# Altium footprint library RT_SUPER_C__HOST.PcbLib: 23 footprints (part 1 of 2)
Each footprint in its own frame and in the unit in brackets; x right, y up, seen from the top. Pads: shape width x height; smd on the part's side, far side on the other; paste and mask are expansions set on the pad; w line width, h text height; cw(c..) or ccw(c..) is an arc to the next point about the centre after c.
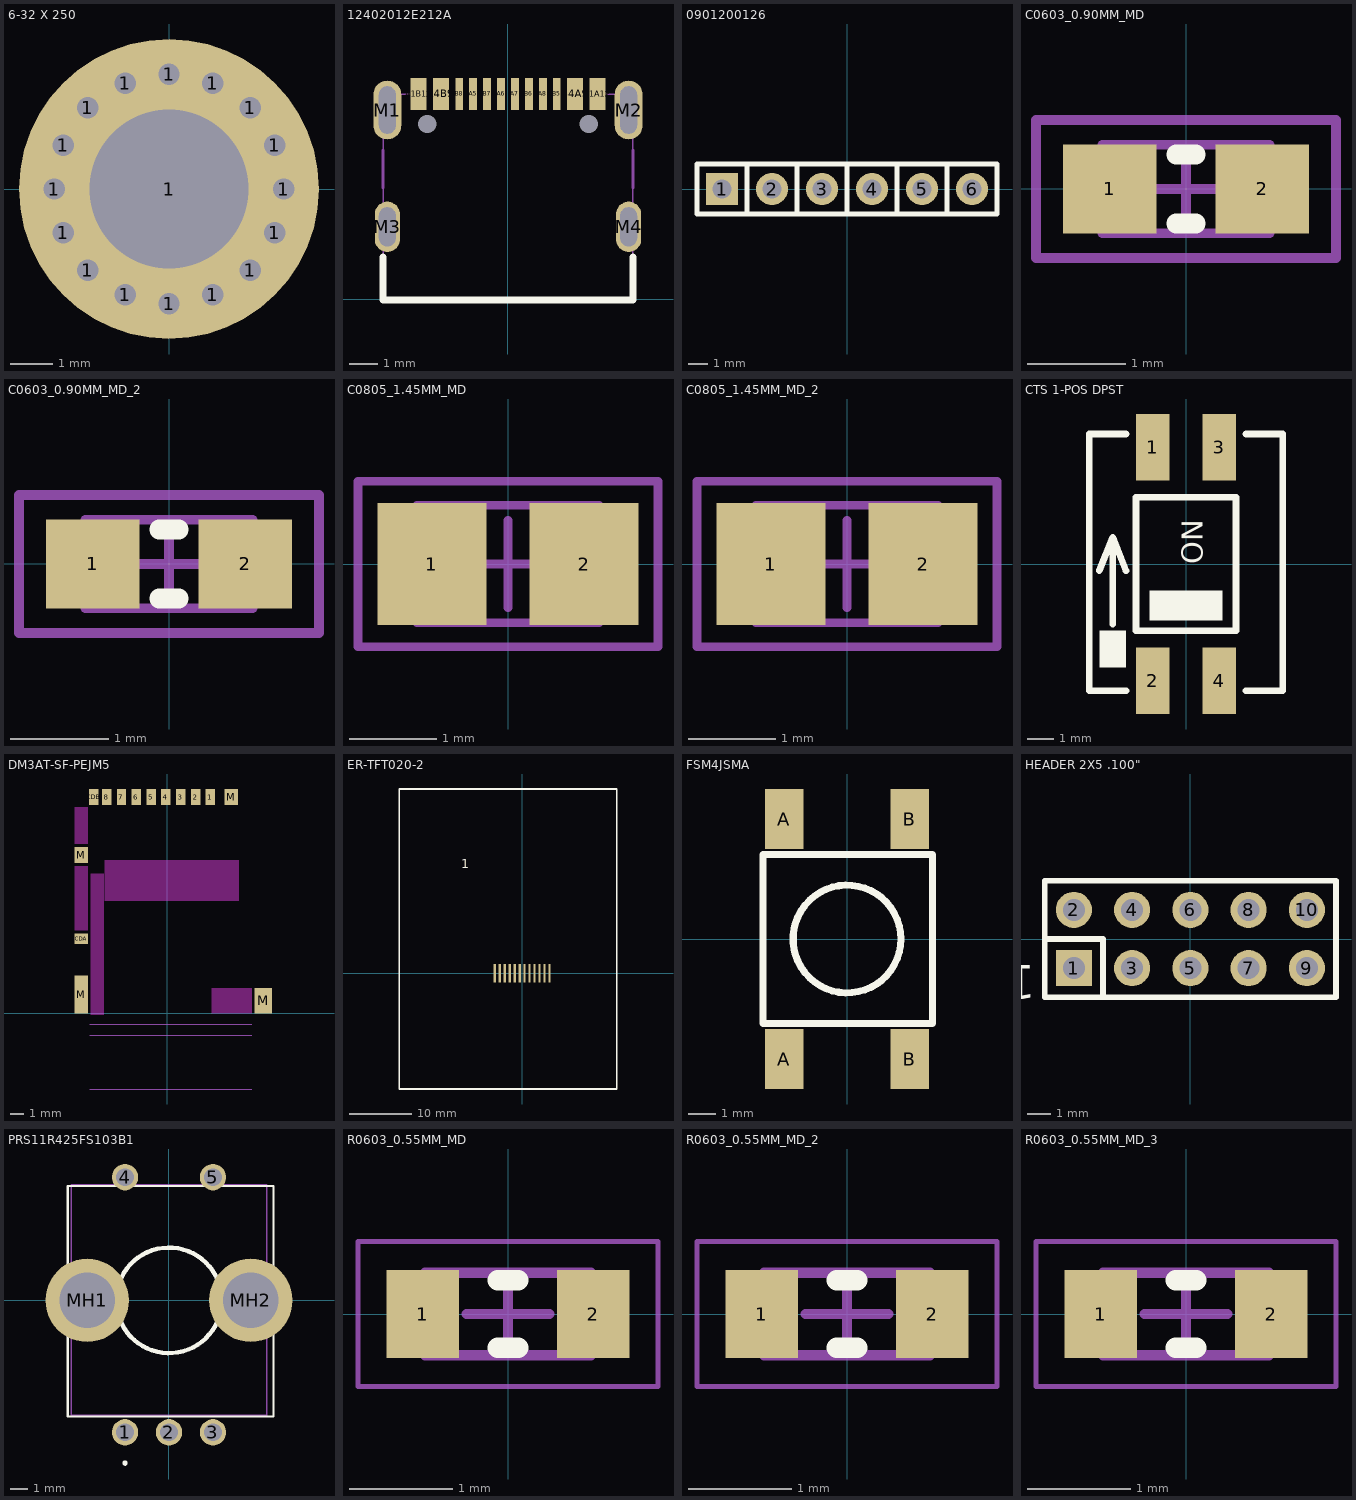
[diagram p0: the footprints below, top view; thin cyan lines are the x and y axes]

## 6-32 X 250 [mil] "6-32 X 250 Length Philip Pan Head Machine Screw"
height 97
pads (17):
  round 30 hole 20: 1(-107,0) 1(-98.86,-40.95) 1(-98.86,40.95) 1(-75.66,-75.66) 1(-75.66,75.66) 1(-40.95,-98.86) 1(-40.95,98.86) 1(0,-107) 1(0,107) 1(40.95,-98.86) 1(40.95,98.86) 1(75.66,-75.66) 1(75.66,75.66) 1(98.86,-40.95) 1(98.86,40.95) 1(107,0)
  round 280 hole 148: 1(0,0)
3D body "6-32x250.STEP": height 93.37, standoff -250, extent -135,-135 135,135

## 12402012E212A [mm] "USB-C  2.0"
pads (18):
  round 0 hole 0.65: 71(2.89,6.28) ALIGN1(-2.89,6.28)
  rect 0.575x1.15 smd: A1B12(-3.2,7.355) A4B9(-2.4,7.355) B1A12(3.2,7.355) B4A9(2.4,7.355)
  rect 0.275x1.15 smd: A5(-1.25,7.355) A6(-0.25,7.355) A7(0.25,7.355) A8(1.25,7.355) B5(1.75,7.355) B6(0.75,7.355) B7(-0.75,7.355) B8(-1.75,7.355)
  oval 1x2.1 hole 0.6 slot 1.7 at 90 deg: M1(-4.32,6.78) M2(4.32,6.78)
  oval 0.9x1.8 hole 0.6 slot 1.4 at 90 deg: M3(-4.32,2.6) M4(4.32,2.6)
Top Overlay:
  lines w0.254: -4.47,1.524 -4.47,-0.025 4.47,-0.025 4.47,1.524
Top Paste:
  region: -4.826,6.782 -4.826,7.264 -4.826,7.365 -4.749,7.552 -4.606,7.695 -4.419,7.772 -4.318,7.772 -4.222,7.772 -4.045,7.699 -3.909,7.563 -3.835,7.386 -3.835,7.29 -3.835,6.782 -3.835,6.274 -3.835,6.178 -3.909,6 -4.045,5.865 -4.191,5.804 -4.45,5.804 -4.606,5.869 -4.749,6.011 -4.826,6.198 -4.826,6.299
  region: -4.813,2.603 -4.813,3.086 -4.813,3.187 -4.736,3.374 -4.593,3.517 -4.406,3.594 -4.305,3.594 -4.209,3.594 -4.032,3.521 -3.896,3.385 -3.823,3.207 -3.823,3.111 -3.823,2.604 -3.823,2.095 -3.823,2 -3.896,1.822 -4.032,1.686 -4.209,1.613 -4.305,1.613 -4.406,1.613 -4.593,1.69 -4.736,1.833 -4.813,2.02 -4.813,2.121
  region: 3.823,2.604 3.823,3.086 3.823,3.187 3.9,3.374 4.043,3.517 4.23,3.594 4.331,3.594 4.427,3.594 4.604,3.521 4.74,3.385 4.813,3.207 4.813,3.112 4.813,2.603 4.813,2.095 4.813,2 4.74,1.822 4.604,1.686 4.427,1.613 4.331,1.613 4.23,1.613 4.043,1.69 3.9,1.833 3.823,2.02 3.823,2.121
  region: 3.823,6.794 3.823,7.277 3.823,7.378 3.9,7.565 4.043,7.708 4.23,7.785 4.331,7.785 4.427,7.785 4.604,7.712 4.74,7.576 4.813,7.398 4.813,7.302 4.813,6.795 4.813,6.287 4.813,6.19 4.74,6.013 4.604,5.877 4.427,5.804 4.331,5.804 4.23,5.804 4.043,5.881 3.9,6.024 3.823,6.211 3.823,6.312
Bottom Assembly:
  lines w0.05: -3.53,7.35 -4.47,7.35 -4.47,0 4.47,0 4.47,7.35 3.53,7.35
Route Tool Path:
  lines w0: -4.62,2.3 ccw(c-4.32,2.3) -4.32,2 ccw(c-4.32,2.3) -4.02,2.3 -4.02,2.9 ccw(c-4.32,2.9) -4.32,3.2 ccw(c-4.32,2.9) -4.62,2.9 -4.62,2.3 ; -4.62,6.23 ccw(c-4.32,6.23) -4.32,5.93 ccw(c-4.32,6.23) -4.02,6.23 -4.02,7.33 ccw(c-4.32,7.33) -4.32,7.63 ccw(c-4.32,7.33) -4.62,7.33 -4.62,6.23 ; 4.02,2.3 ccw(c4.32,2.3) 4.32,2 ccw(c4.32,2.3) 4.62,2.3 4.62,2.9 ccw(c4.32,2.9) 4.32,3.2 ccw(c4.32,2.9) 4.02,2.9 4.02,2.3 ; 4.02,6.23 ccw(c4.32,6.23) 4.32,5.93 ccw(c4.32,6.23) 4.62,6.23 4.62,7.33 ccw(c4.32,7.33) 4.32,7.63 ccw(c4.32,7.33) 4.02,7.33 4.02,6.23
Mechanical 7:
  lines w0.102: -4.47,1.35 -4.47,0 4.47,0 4.47,1.35 ; -4.47,4 -4.47,5.35 ; 4.47,4 4.47,5.35
3D body "C12402012-3.stp": height 3.27, standoff -0.89, extent -4.47,-0.015 4.47,7.585

## 0901200126 [mil] "CONN HEADER 6POS .100\" STR TIN"
height 109.06
pads (6):
  rect 64x64 hole 38: 1(-250,0)
  round 64 hole 38: 2(-150,0) 3(-50,0) 4(50,0) 5(150,0) 6(250,0)
Top Overlay:
  lines w10: 100,-50 100,50 ; 200,-50 200,50 ; -300,-50 -100,-50 ; -300,-50 -200,-50 -200,50 -300,50 ; -300,-50 -300,50 ; -300,50 -100,50 ; -100,-50 0,-50 ; -100,-50 -100,50 ; -100,50 0,50 ; 0,-50 300,-50 300,50 0,50 ; 0,-50 0,50
3D body "TSW-106-07-G-S.stp": height 330.5, standoff -99.5, extent -305,-50 300,50

## C0603_0.90MM_MD [mm] "Capacitor 0603 - Medium Density"
height 0.9
pads (2):
  rect 0.95x0.9 smd: 1(-0.775,0) 2(0.775,0)
Top Overlay:
  lines w0.2: -0.1,-0.35 0.1,-0.35 ; -0.1,0.35 0.1,0.35
Mechanical 13:
  lines w0.1: -0.85,-0.45 0.85,-0.45 0.85,0.45 -0.85,0.45 -0.85,-0.45
Mechanical 15:
  lines w0.1: -0.45,0 0.45,0 ; 0,-0.45 0,0.45 ; -1.525,-0.7 1.525,-0.7 1.525,0.7 -1.525,0.7 -1.525,-0.7
3D body "0603_0.90mm.STEP": height 0.9, standoff 0, extent -0.8,-0.4 0.8,0.4

## C0603_0.90MM_MD_2 [mm]
pads (2):
  rect 0.95x0.9 smd: 1(-0.775,0) 2(0.775,0)
Top Overlay:
  lines w0.2: -0.1,-0.35 0.1,-0.35 ; -0.1,0.35 0.1,0.35
Mechanical 13:
  lines w0.1: -0.85,-0.45 0.85,-0.45 0.85,0.45 -0.85,0.45 -0.85,-0.45
Mechanical 15:
  lines w0.1: -0.45,0 0.45,0 ; 0,-0.45 0,0.45 ; -1.525,-0.7 1.525,-0.7 1.525,0.7 -1.525,0.7 -1.525,-0.7
3D body "0603_0.90mm.STEP": height 0.9, standoff 0, extent -0.8,-0.4 0.8,0.4

## C0805_1.45MM_MD [mm] "Capacitor - 0805 - Medium Density"
height 1.45
pads (2):
  rect 1.25x1.4 smd: 1(-0.875,0) 2(0.875,0)
Mechanical 13:
  lines w0.1: -1.05,-0.675 -1.05,0.675 1.05,0.675 1.05,-0.675 -1.05,-0.675
Mechanical 15:
  lines w0.1: -0.5,0 0.5,0 ; 0,-0.5 0,0.5 ; -1.725,-0.95 -1.725,0.95 1.725,0.95 1.725,-0.95 -1.725,-0.95
3D body "0805_1.45mm.STEP": height 1.45, standoff 0, extent -1,-0.625 1,0.625

## C0805_1.45MM_MD_2 [mm]
pads (2):
  rect 1.25x1.4 smd: 1(-0.875,0) 2(0.875,0)
Mechanical 13:
  lines w0.1: -1.05,-0.675 -1.05,0.675 1.05,0.675 1.05,-0.675 -1.05,-0.675
Mechanical 15:
  lines w0.1: -0.5,0 0.5,0 ; 0,-0.5 0,0.5 ; -1.725,-0.95 -1.725,0.95 1.725,0.95 1.725,-0.95 -1.725,-0.95
3D body "0805_1.45mm.STEP": height 1.45, standoff 0, extent -1,-0.625 1,0.625

## CTS 1-POS DPST [mil] "CTS 1-POS DPST"
pads (4):
  rect 50x100 smd: 1(-50,175) 2(-50,-175) 3(50,175) 4(50,-175)
Top Overlay:
  rectangle: -55,-85 55,-40
  rectangle: -130,-155 -90,-100
  lines w10: -130,-10 -110,40 ; -110,-90 -110,40 ; -90,-190 -145,-190 -145,195 -90,195 ; -90,-10 -110,40 ; 90,-190 145,-190 145,195 90,195 ; -75,-100 -75,100 75,100 75,-100 -70,-100 -75,-100
  text "ON" at 25,0 h32
3D body "204-211.step": height 394.59, standoff 0.5, extent -142.51,-203.77 143.51,206.23

## DM3AT-SF-PEJM5 [mm] "Hirose DM3AT-SF-PEJM5 uSD connector - Normal Mount"
height 1.68
pads (14):
  rect 0.7x1.2 smd: 1(3.2,16.05) 2(2.1,16.05) 3(1,16.05) 4(-0.1,16.05) 5(-1.2,16.05) 6(-2.3,16.05) 7(-3.4,16.05) 8(-4.5,16.05) CDB(-5.45,16.05)
  rect 1x0.8 smd: CDA(-6.4,5.55)
  rect 1x2.8 smd: M(-6.4,1.4)
  rect 1x1.2 smd: M(-6.4,11.75) M(4.75,16.05)
  rect 1.3x1.9 smd: M(7.1,0.95)
Top Layer keep-out:
  rectangle: -4.648,8.35 5.325,11.4
  rectangle: -5.7,-0.101 -4.7,10.399
  rectangle: -6.9,6.171 -5.9,10.921
  rectangle: -6.9,12.573 -5.9,15.325
  rectangle: 3.275,0 6.275,1.9
Mechanical 1:
  lines w0.025: -5.75,-5.6 6.25,-5.6 ; -5.75,-1.6 6.25,-1.6 ; -5.75,-0.8 6.25,-0.8
  text "LOCK" at -6.875,-1.725 h0.25
  text "OVERSTROKE" at -8.35,-0.95 h0.25
  text "CARD EJECT" at -8.25,-5.725 h0.25
3D body "DM3AT-SF-PEJM5.stp": height 1.68, standoff 0, extent -6.494,0 7.356,16.15

## ER-TFT020-2 [mm]
pads (12):
  rect 0.35x3 smd: 1(4.4,0) 2(3.6,0) 3(2.8,0) 4(2,0) 5(1.2,0) 6(0.4,0) 7(-0.4,0) 8(-1.2,0) 9(-2,0) 10(-2.8,0) 11(-3.6,0) 12(-4.4,0)
Top Overlay:
  lines w0.254: -19.742,-18.616 -19.742,29.644 15.183,29.644 15.183,-18.616 -19.742,-18.616
  text "1" at -9.779,16.383 h2.54

## FSM4JSMA [mil] "SWITCH TACTILE SPST-NO 0.05A 12V"
height 109.06
pads (4):
  rect 55x85 smd: A(-89,-170) A(-89,170) B(89,-170) B(89,170)
Top Overlay:
  circle w10: c0,0 r76.32
  lines w10: -119,-120 121,-120 121,120 -119,120 -119,-120
3D body "FSM4JSMA.step": height 200.22, standoff 0.22, extent -118.11,-197.85 118.11,195.85

## HEADER 2X5 .100" [mil]
pads (10):
  rect 62x62 hole 38: 1(-200,-50)
  round 62 hole 38: 2(-200,50) 3(-100,-50) 4(-100,50) 5(0,-50) 6(0,50) 7(100,-50) 8(100,50) 9(200,-50) 10(200,50)
Top Overlay:
  lines w10: -250,0 -150,0 -150,-100 ; -250,-100 -250,100 250,100 250,-100 -250,-100
  text "1" at -265,-25 h100

## PRS11R425FS103B1 [mm]
height 2.77
pads (7):
  round 1.5 hole 1: 1(-2.5,-7.5) 2(0,-7.5) 3(2.5,-7.5) 4(-2.5,7) 5(2.5,7)
  round 4.74 hole 3.16: MH1(-4.65,0) MH2(4.65,0)
Top Overlay:
  circle w0.254: c0,0 r3
  lines w0.127: -5.754,-6.606 5.946,-6.606 5.946,6.494 -5.754,6.494 -5.754,-6.606
  lines w0.2: -2.5,-9.3 ccw(c-2.5,-9.25) -2.5,-9.2 ; -2.5,-9.3 cw(c-2.5,-9.25) -2.5,-9.2 ; -2.5,-9.3 ccw(c-2.5,-9.25) -2.5,-9.2
Mechanical 15:
  lines w0.1: -5.55,-6.55 5.55,-6.55 5.55,6.55 -5.55,6.55 -5.55,-6.55
3D body: height 6.8, standoff 0, extent -5.753,-6.605 5.945,6.494
3D body: height 13.8, standoff 6.8, extent -2.999,-2.999 2.999,2.999
3D body: height 31.8, standoff 13.81, extent -2.949,-2.949 2.949,2.949

## R0603_0.55MM_MD [mm] "Resistor 0603 Medium Density"
height 0.55
pads (2):
  rect 0.7x0.85 smd: 1(-0.825,0) 2(0.825,0)
Top Overlay:
  lines w0.2: -0.1,-0.325 0.1,-0.325 ; -0.1,0.325 0.1,0.325
Mechanical 13:
  lines w0.1: -0.8,-0.4 0.8,-0.4 0.8,0.4 -0.8,0.4 -0.8,-0.4
Mechanical 15:
  lines w0.05: -1.45,-0.7 1.45,-0.7 1.45,0.7 -1.45,0.7 -1.45,-0.7
  lines w0.1: -0.4,0 0.4,0 ; 0,-0.4 0,0.4
3D body "RESC1608X06N.step": height 0.55, standoff 0, extent -0.8,-0.4 0.8,0.4

## R0603_0.55MM_MD_2 [mm]
pads (2):
  rect 0.7x0.85 smd: 1(-0.825,0) 2(0.825,0)
Top Overlay:
  lines w0.2: -0.1,-0.325 0.1,-0.325 ; -0.1,0.325 0.1,0.325
Mechanical 13:
  lines w0.1: -0.8,-0.4 0.8,-0.4 0.8,0.4 -0.8,0.4 -0.8,-0.4
Mechanical 15:
  lines w0.05: -1.45,-0.7 1.45,-0.7 1.45,0.7 -1.45,0.7 -1.45,-0.7
  lines w0.1: -0.4,0 0.4,0 ; 0,-0.4 0,0.4
3D body "RESC1608X06N.step": height 0.55, standoff 0, extent -0.8,-0.4 0.8,0.4

## R0603_0.55MM_MD_3 [mm]
pads (2):
  rect 0.7x0.85 smd: 1(-0.825,0) 2(0.825,0)
Top Overlay:
  lines w0.2: -0.1,-0.325 0.1,-0.325 ; -0.1,0.325 0.1,0.325
Mechanical 13:
  lines w0.1: -0.8,-0.4 -0.8,0.4 0.8,0.4 0.8,-0.4 -0.8,-0.4
Mechanical 15:
  lines w0.05: -1.45,-0.7 -1.45,0.7 1.45,0.7 1.45,-0.7 -1.45,-0.7
  lines w0.1: -0.4,0 0.4,0 ; 0,-0.4 0,0.4
3D body "RESC1608X06N.step": height 0.55, standoff 0, extent -0.8,-0.4 0.8,0.4